# EAGLE library part 13X2 (library Boards)
13x2 pin board
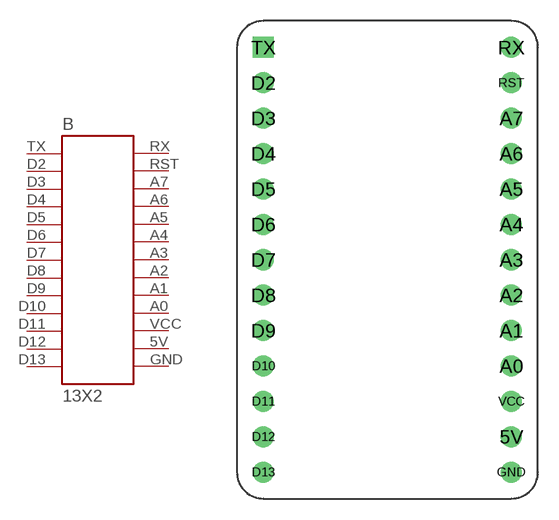
[diagram p0: symbol with the pads of RAWRDUINO_V1; footprint RAWRDUINO_V1]

Designator prefix B

## 13X2RAWRDUINO_V1  [RAWRDUINO_V1]
5V  P$15
A0  P$17
A1  P$18
A2  P$19
A3  P$20
A4  P$21
A5  P$22
A6  P$23
A7  P$24
D2  P$2
D3  P$3
D4  P$4
D5  P$5
D6  P$6
D7  P$7
D8  P$8
D9  P$9
D10  P$10
D11  P$11
D12  P$12
D13  P$13
GND  P$14
RST  P$25
RX  P$26
TX  P$1
VCC  P$16

## Footprint RAWRDUINO_V1 (pad centres in mm)
drill 1: 5V 17.78,-27.94; A0 17.78,-22.86; A1 17.78,-20.32; A2 17.78,-17.78; A3 17.78,-15.24; A4 17.78,-12.7; A5 17.78,-10.16; A6 17.78,-7.62; A7 17.78,-5.08; D2 0,-2.54; D3 0,-5.08; D4 0,-7.62; D5 0,-10.16; D6 0,-12.7; D7 0,-15.24; D8 0,-17.78; D9 0,-20.32; D10 0,-22.86; D11 0,-25.4; D12 0,-27.94; D13 0,-30.48; GND 17.78,-30.48; RST 17.78,-2.54; RX 17.78,0; VCC 17.78,-25.4
drill 1 square: TX 0,0